# Altium footprint library DIODOS.PcbLib: 35 footprints (part 1 of 3)
Each footprint in its own frame and in the unit in brackets; x right, y up, seen from the top. Pads: shape width x height; smd on the part's side, far side on the other; paste and mask are expansions set on the pad; w line width, h text height; cw(c..) or ccw(c..) is an arc to the next point about the centre after c.
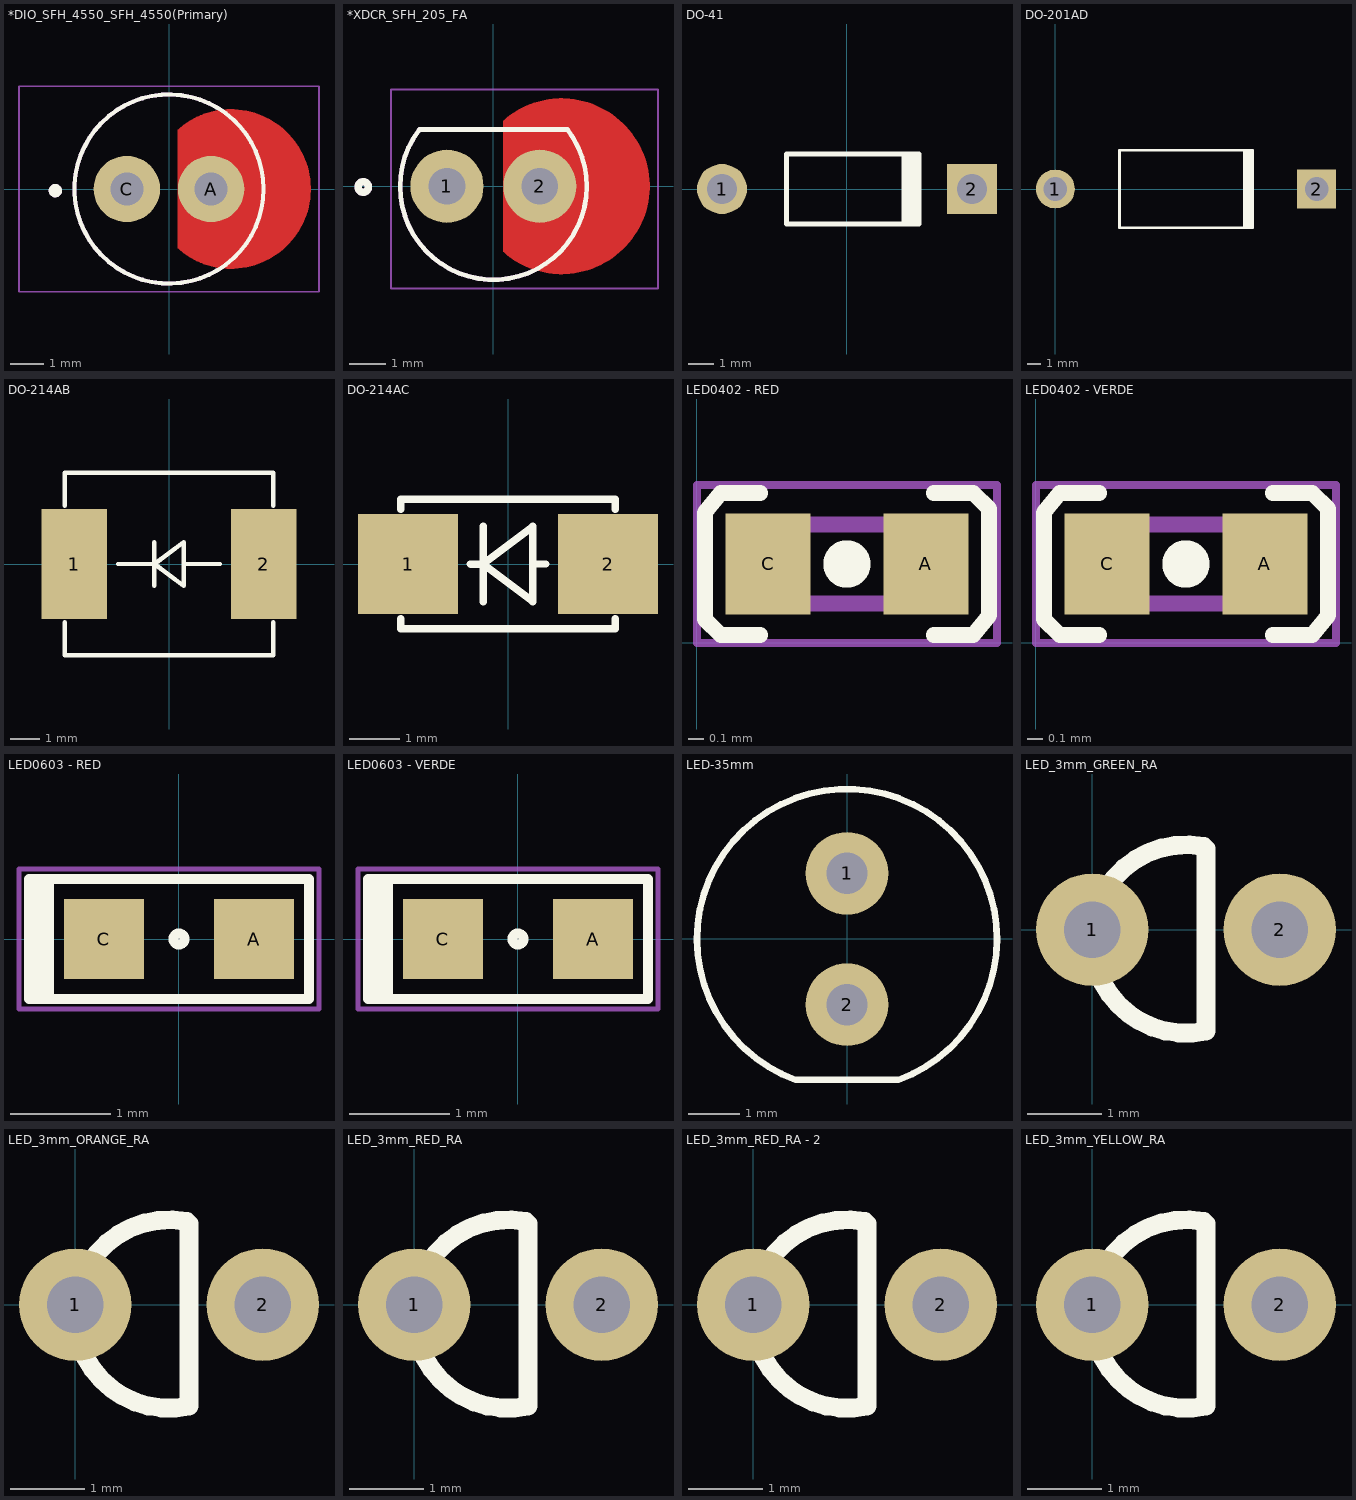
[diagram p0: the footprints below, top view; thin cyan lines are the x and y axes]

## *DIO_SFH_4550_SFH_4550(Primary) [mm]
pads (2):
  round 2 hole 1: A(1.27,0) C(-1.27,0)
Top Layer:
  region: 0.27,1.79 0.303,1.82 0.347,1.858 0.393,1.895 0.439,1.93 0.486,1.965 0.534,1.998 0.583,2.03 0.632,2.061 0.683,2.091 0.734,2.119 0.785,2.147 0.838,2.172 0.891,2.197 0.945,2.22 0.999,2.242 1.054,2.262 1.109,2.282 1.164,2.299 1.221,2.316 1.277,2.33 1.334,2.344 1.391,2.356 1.449,2.367 1.506,2.376 1.564,2.383 1.622,2.39 1.681,2.395 1.739,2.398 1.797,2.4 1.856,2.4 1.87,2.4 1.895,2.4 1.966,2.399 2.09,2.39 2.214,2.375 2.337,2.354 2.459,2.326 2.579,2.292 2.697,2.252 2.812,2.205 2.926,2.153 3.036,2.095 3.144,2.032 3.247,1.962 3.348,1.888 3.444,1.809 3.536,1.724 3.623,1.635 3.706,1.542 3.784,1.444 3.856,1.343 3.923,1.238 3.985,1.13 4.041,1.018 4.091,0.904 4.136,0.787 4.174,0.669 4.206,0.548 4.231,0.426 4.251,0.303 4.264,0.179 4.27,0.054 4.27,0 4.27,-0.054 4.264,-0.179 4.251,-0.303 4.231,-0.426 4.206,-0.548 4.174,-0.669 4.136,-0.787 4.091,-0.904 4.041,-1.018 3.985,-1.13 3.923,-1.238 3.856,-1.343 3.784,-1.444 3.706,-1.542 3.623,-1.635 3.536,-1.724 3.444,-1.809 3.348,-1.888 3.247,-1.962 3.144,-2.032 3.036,-2.095 2.926,-2.153 2.812,-2.205 2.697,-2.252 2.579,-2.292 2.459,-2.326 2.337,-2.354 2.214,-2.375 2.09,-2.39 1.966,-2.399 1.895,-2.4 1.87,-2.4 1.856,-2.4 1.797,-2.4 1.739,-2.398 1.681,-2.395 1.622,-2.39 1.564,-2.383 1.506,-2.376 1.449,-2.367 1.391,-2.356 1.334,-2.344 1.277,-2.33 1.221,-2.316 1.164,-2.299 1.109,-2.282 1.054,-2.262 0.999,-2.242 0.945,-2.22 0.891,-2.197 0.838,-2.172 0.785,-2.147 0.734,-2.119 0.683,-2.091 0.632,-2.061 0.583,-2.03 0.534,-1.998 0.486,-1.965 0.439,-1.93 0.393,-1.895 0.347,-1.858 0.303,-1.82 0.27,-1.79
Top Overlay:
  circle w0.127: c0,0 r2.85
  circle w0.2: c-3.425,-0.05 r0.1
Top Solder:
  circle w1: c1.27,0 r0.5
  circle w1: c-1.27,0 r0.5
Bottom Solder:
  circle w1: c1.27,0 r0.5
  circle w1: c-1.27,0 r0.5
Mechanical 13:
  circle w0.127: c0,0 r2.85
  circle w0.2: c-3.425,-0.05 r0.1
  circle w0.127: c0,0 r2.85
  circle w0.2: c-3.425,-0.05 r0.1
Mechanical 16:
  lines w0.05: -4.52,-3.1 4.52,-3.1 4.52,3.1 -4.52,3.1 -4.52,-3.1
3D body "LED 5mm white.step": height 10.7, standoff -23, extent -2.55,-3 2.85,2.8

## *XDCR_SFH_205_FA [mm]
pads (2):
  round 2 hole 1: 1(-1.27,0) 2(1.27,0)
Top Layer:
  region: 0.27,0.06 0.27,1.79 0.303,1.82 0.347,1.858 0.393,1.895 0.439,1.93 0.486,1.965 0.534,1.998 0.583,2.03 0.632,2.061 0.683,2.091 0.734,2.119 0.785,2.147 0.838,2.172 0.891,2.197 0.945,2.22 0.999,2.242 1.054,2.262 1.109,2.282 1.164,2.299 1.221,2.316 1.277,2.33 1.334,2.344 1.391,2.356 1.449,2.367 1.506,2.376 1.564,2.383 1.622,2.39 1.681,2.395 1.739,2.398 1.797,2.4 1.856,2.4 1.87,2.4 1.895,2.4 1.966,2.399 2.09,2.39 2.214,2.375 2.337,2.354 2.459,2.326 2.579,2.292 2.697,2.252 2.812,2.205 2.926,2.153 3.036,2.095 3.144,2.032 3.247,1.962 3.348,1.888 3.444,1.809 3.536,1.724 3.623,1.635 3.706,1.542 3.784,1.444 3.856,1.343 3.923,1.238 3.985,1.13 4.041,1.018 4.091,0.904 4.136,0.787 4.174,0.669 4.206,0.548 4.231,0.426 4.251,0.303 4.264,0.179 4.27,0.054 4.27,0 4.27,-0.054 4.264,-0.179 4.251,-0.303 4.231,-0.426 4.206,-0.548 4.174,-0.669 4.136,-0.787 4.091,-0.904 4.041,-1.018 3.985,-1.13 3.923,-1.238 3.856,-1.343 3.784,-1.444 3.706,-1.542 3.623,-1.635 3.536,-1.724 3.444,-1.809 3.348,-1.888 3.247,-1.962 3.144,-2.032 3.036,-2.095 2.926,-2.153 2.812,-2.205 2.697,-2.252 2.579,-2.292 2.459,-2.326 2.337,-2.354 2.214,-2.375 2.09,-2.39 1.966,-2.399 1.895,-2.4 1.795,-2.4 1.87,-2.4 1.856,-2.4 1.797,-2.4 1.739,-2.398 1.681,-2.395 1.622,-2.39 1.564,-2.383 1.506,-2.376 1.449,-2.367 1.391,-2.356 1.334,-2.344 1.277,-2.33 1.221,-2.316 1.164,-2.299 1.109,-2.282 1.054,-2.262 0.999,-2.242 0.945,-2.22 0.891,-2.197 0.838,-2.172 0.785,-2.147 0.734,-2.119 0.683,-2.091 0.632,-2.061 0.583,-2.03 0.534,-1.998 0.486,-1.965 0.439,-1.93 0.393,-1.895 0.347,-1.858 0.303,-1.82 0.27,-1.79
Top Overlay:
  circle w0.2: c-3.56,-0.02 r0.143
  lines w0.127: -2.038,1.532 ccw(c0,-0.004) 2.038,1.532 ; -2.025,1.55 2.025,1.55
Top Solder:
  circle w1: c1.27,0 r0.5
  circle w1: c-1.27,0 r0.5
Bottom Solder:
  circle w1: c-1.27,0 r0.5
  circle w1: c1.27,0 r0.5
Mechanical 13:
  circle w0.2: c-3.56,-0.02 r0.143
  circle w0.2: c-3.56,-0.02 r0.143
  region: 0.27,0.1 0.27,0 0.27,-0.1 0.29,-0.23 0.31,-0.31 0.37,-0.45
  region: 0.27,0.1 0.27,0 0.27,-0.1 0.29,-0.23 0.31,-0.31 0.37,-0.45
  lines w0.127: -2.038,1.532 ccw(c0,-0.004) 2.038,1.532 cw(c0,-0.004) -2.038,1.532 ; -2.025,1.55 2.025,1.55 -2.025,1.55
Mechanical 15:
  lines w0.05: -2.8,-2.8 4.5,-2.8 4.5,2.65 -2.8,2.65 -2.8,-2.8
3D body "FOTODIODO v1.step": height 22.35, standoff -5.07, extent -2.274,-0.4 2.425,8.316
3D body: height 9, standoff -4, extent -2.8,2.675 -2.8,2.675

## DO-41 [mm] "Diode, Axial; Body 5.2 x 2.7 mm (LxDia. max), Lead Dia. 0.86 mm (max)"
height 2.8
pads (2):
  round 2 hole 1.2: 1(-5,0)
  rect 2x2 hole 1.2: 2(5,0)
Top Overlay:
  rectangle: 2.18,-1.4 2.98,1.4
  lines w0.2: 2.88,-1.4 -2.42,-1.4 -2.42,1.4 2.88,1.4
3D body "User Library-DO-41 10mm.STEP": height 3.86, standoff -1.5, extent -5.41,-1.387 5.45,1.338

## DO-201AD [mm] "Diode, Axial; Body 9.5 x 5.6 mm (LxDia. max), Lead Dia. 1.32 mm (max)"
height 5.6
pads (2):
  round 2.8 hole 1.7: 1(0,0)
  rect 2.8x2.8 hole 1.7: 2(18.84,0)
Top Overlay:
  rectangle: 13.52,-2.8 14.32,2.8
  lines w0.2: 14.22,-2.8 4.62,-2.8 4.62,2.8 14.22,2.8
3D body "User Library-DO-201ADDO-27.STEP": height 1.8, standoff -7.82, extent -0.545,-2.815 19.595,2.825

## DO-214AB [mm] "CASE 403AC - SMC"
height 2.61
pads (2):
  rect 2.25x3.79 smd: 1(-3.25,0) 2(3.25,0)
Top Overlay:
  lines w0.15: -3.575,-2 -3.575,-3.125 3.575,-3.125 3.575,-2 ; -3.575,2 -3.575,3.125 3.575,3.125 3.575,2 ; -1.75,0 -0.5,0 ; -0.5,-0.75 -0.5,0.75 ; 0.5,0 1.75,0 ; -0.5,0 -0.5,0 ; -0.5,0 0.5,0.75 0.5,-0.75 -0.5,0
3D body "User Library-DO-214AB SMC.step": height 2.35, standoff 0.05, extent -3.975,-2.95 3.975,2.95

## DO-214AC [mm] "CASE 403D - SMA"
height 2.1
pads (2):
  rect 2x2 smd: 1(-2,0) 2(2,0)
Top Overlay:
  lines w0.15: -2.15,-1.1 -2.15,-1.3 2.15,-1.3 2.15,-1.1 ; -2.15,1.1 -2.15,1.3 2.15,1.3 2.15,1.1 ; -0.5,-0.75 -0.5,0.75 ; 0.5,0 0.75,0 ; -0.75,0 -0.75,0 ; -0.75,0 -0.5,0 ; -0.5,0 -0.5,0 ; -0.5,0 0.5,-0.75 0.5,0.75 -0.5,0 ; -0.5,0 -0.5,0
3D body "User Library-DO-214AC SMA.STEP": height 2.35, standoff -0.05, extent -2.6,-1.325 2.6,1.275

## LED0402 - RED [mm] "LED SMD 0402 RED"
height 0.55
pads (2):
  rect 0.54x0.64 smd: A(1.45,0.5) C(0.45,0.5)
Top Overlay:
  circle w0.2: c0.95,0.5 r0.05
  lines w0.1: 0.4,0.05 0.15,0.05 0.05,0.15 0.05,0.825 0.15,0.95 0.4,0.95 ; 1.5,0.05 1.75,0.05 1.85,0.175 1.85,0.85 1.75,0.95 1.5,0.95
Mechanical 13:
  lines w0.1: 0.45,0.25 0.45,0.75 1.45,0.75 1.45,0.25 0.45,0.25
Mechanical 15:
  lines w0.05: 0,0 0,1 1.9,1 1.9,0 0,0
3D body "User Library-LED_1006_R.STEP": height 0.2, standoff 0, extent 0.5,0.2 1.5,0.8

## LED0402 - VERDE [mm] "LED SMD 0402 VERDE"
height 0.55
pads (2):
  rect 0.54x0.64 smd: A(1.45,0.5) C(0.45,0.5)
Top Overlay:
  circle w0.2: c0.95,0.5 r0.05
  lines w0.1: 0.4,0.05 0.15,0.05 0.05,0.15 0.05,0.825 0.15,0.95 0.4,0.95 ; 1.5,0.05 1.75,0.05 1.85,0.175 1.85,0.85 1.75,0.95 1.5,0.95
Mechanical 13:
  lines w0.1: 0.45,0.25 1.45,0.25 1.45,0.75 0.45,0.75 0.45,0.25
Mechanical 15:
  lines w0.05: 0,0 1.9,0 1.9,1 0,1 0,0
3D body "User Library-LED_1006_G.STEP": height 0.2, standoff 0, extent 0.5,0.2 1.5,0.8

## LED0603 - RED [mm] "LED SMD 00603 RED"
height 0.55
pads (2):
  rect 0.8x0.8 smd: A(0.75,0) C(-0.75,0)
Top Overlay:
  circle w0.1: c0,0 r0.055
  rectangle: -1.5,-0.6 -1.3,0.6
  lines w0.1: -1.4,-0.6 -1.5,-0.6 ; -1.5,-0.6 -1.3,-0.6 ; -1.5,-0.6 -1.5,0.6 -1.3,0.6 ; -1.3,-0.6 1.3,-0.6 1.3,0.6 -1.3,0.6 ; -1.3,-0.6 -1.3,0.6
Mechanical 16:
  lines w0.05: -1.6,-0.7 -1.6,0.7 1.4,0.7 1.4,-0.7 -1.6,-0.7
3D body: height 5.83, standoff 0.25, extent -0.9,-0.4 -0.9,-0.4
3D body: height 0.18, standoff 0, extent -0.8,-0.4 0.8,0.4
3D body: height 0.55, standoff 0.05, extent -0.55,-0.375 0.55,0.375

## LED0603 - VERDE [mm] "LED SMD 00603 VERDE"
height 0.55
pads (2):
  rect 0.8x0.8 smd: A(0.75,0) C(-0.75,0)
Top Overlay:
  circle w0.1: c0,0 r0.055
  rectangle: -1.5,-0.6 -1.3,0.6
  lines w0.1: -1.4,-0.6 -1.5,-0.6 ; -1.5,-0.6 -1.5,0.6 -1.3,0.6 ; -1.5,-0.6 -1.3,-0.6 ; -1.3,-0.6 -1.3,0.6 ; -1.3,-0.6 1.3,-0.6 1.3,0.6 -1.3,0.6
Mechanical 16:
  lines w0.05: -1.6,-0.7 1.4,-0.7 1.4,0.7 -1.6,0.7 -1.6,-0.7
3D body: height 0.55, standoff 0.05, extent -0.55,-0.375 0.55,0.375
3D body: height 0.18, standoff 0, extent -0.8,-0.4 0.8,0.4
3D body: height 5.83, standoff 0.25, extent -0.9,-0.4 -0.9,-0.4

## LED-35mm [mm] "Typical RED GaAs LED; 2 Leads"
height 2.2
pads (2):
  round 1.6 hole 0.8: 1(0,1.27) 2(0,-1.27)
Top Overlay:
  lines w0.127: -0.992,-2.725 cw(c0,0) 0.992,-2.725 -0.992,-2.725
3D body "LED 5mm.STEP": height 26.8, standoff -9, extent -3.079,-2.396 2.92,3.104

## LED_3mm_GREEN_RA [mil]
pads (2):
  round 60 hole 30: 1(0,0) 2(100,0)
Top Overlay:
  lines w10: 59.42,44.36 ccw(c50,-5) 0,0 ccw(c50,-5) 60.62,-54.11 60.62,43.16
3D body "LED 3mm, Green, Thru-hole, Right Angle PCB 1.stp": height 154.51, standoff -125.98, extent -28.54,-8.86 112.01,288.39

## LED_3mm_ORANGE_RA [mil]
pads (2):
  round 60 hole 30: 1(0,0) 2(100,0)
Top Overlay:
  lines w10: 59.42,44.36 ccw(c50,-5) 0,0 ccw(c50,-5) 60.62,-54.11 60.62,43.16
3D body "LED 3mm, Orange, Thru-hole, Right Angle PCB 1.stp": height 154.51, standoff -125.98, extent -27.56,-8.86 113,288.38

## LED_3mm_RED_RA [mil]
pads (2):
  round 60 hole 30: 1(0,0) 2(100,0)
Top Overlay:
  lines w10: 59.42,44.36 ccw(c50,-5) 0,0 ccw(c50,-5) 60.62,-54.11 60.62,43.16
3D body "LED 3mm, Red, Thru-hole, Right Angle PCB 1.stp": height 154.51, standoff -125.98, extent -26.58,-9.84 113.98,287.4

## LED_3mm_RED_RA - 2 [mil]
pads (2):
  round 60 hole 30: 1(0,0) 2(100,0)
Top Overlay:
  lines w10: 59.42,44.36 ccw(c50,-5) 0,0 ccw(c50,-5) 60.62,-54.11 60.62,43.16
3D body "LED_3MM_RA_2.stp": height 211.36, standoff -42.92, extent -11.61,-75.79 354.13,75.63

## LED_3mm_YELLOW_RA [mil]
pads (2):
  round 60 hole 30: 1(0,0) 2(100,0)
Top Overlay:
  lines w10: 59.42,44.36 ccw(c50,-5) 0,0 ccw(c50,-5) 60.62,-54.11 60.62,43.16
3D body "LED 3mm, Yellow, Thru-hole, Right Angle PCB 1.stp": height 154.51, standoff -125.98, extent -27.56,-8.86 112.99,288.39